# Altium schematic symbol library xEV_Flyback20W.SchLib: 77 symbols (part 1 of 2)
Pins are listed as number, name and electrical type; pins without a type are passive.

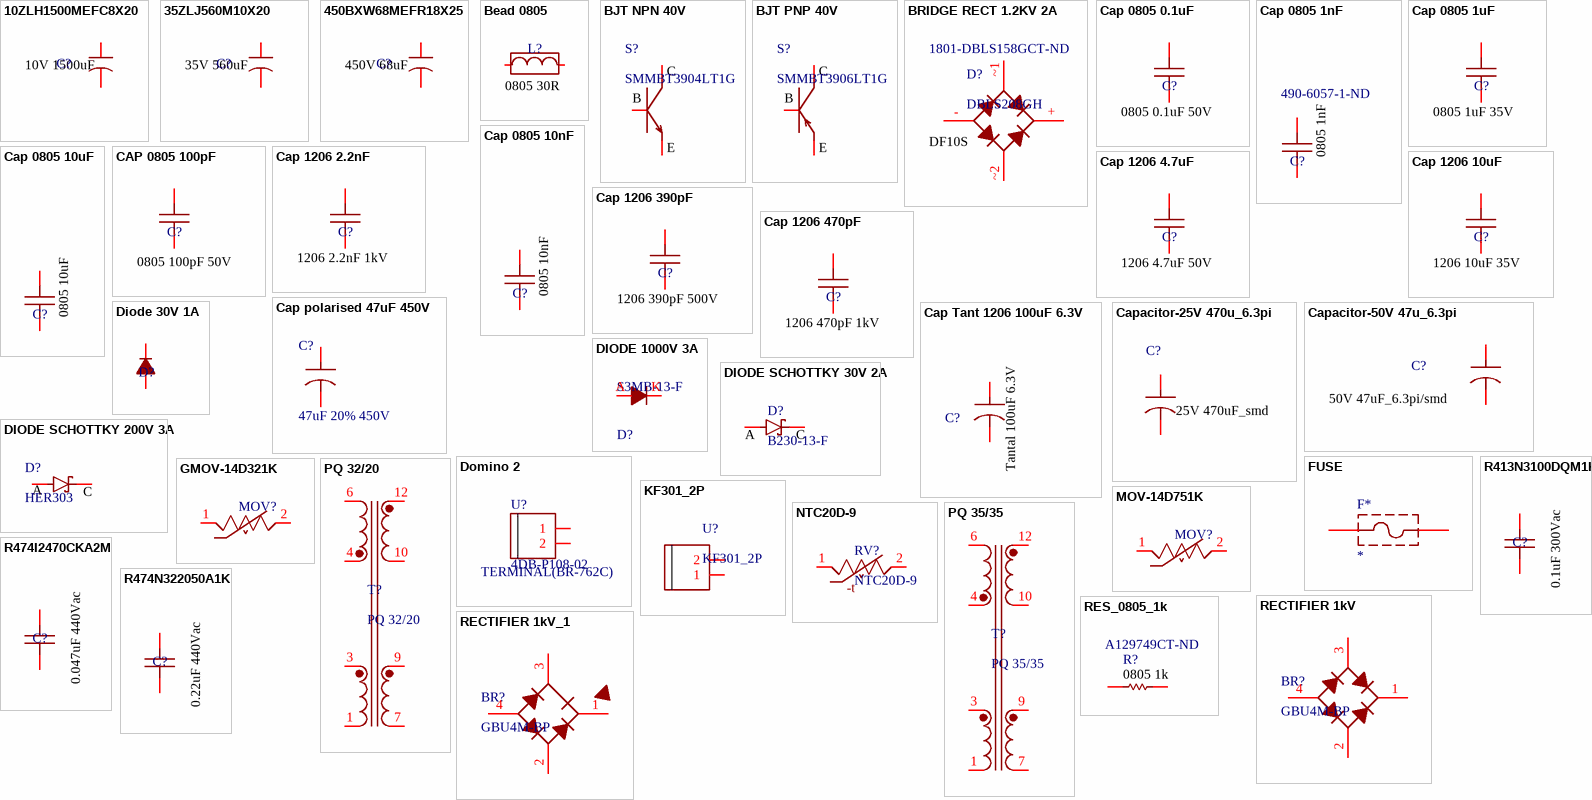
[diagram p0: symbols 10ZLH1500MEFC8X20 to RES_0805_1k]

## 10ZLH1500MEFC8X20
designator C?  value 10V 1500uF  (hidden comment: 10ZLH1500MEFC8X20)
1500 µF 10 V Aluminum Electrolytic Capacitors Radial, Can 8000 Hrs @ 105°C; Manufacturer 1: Rubycon; Description 1: Radial Can ALUMINUM ELECTROLYTIC CAPACITOR ZLH 10V 1500muF ±20% 0.315Dia 8.00mm; Voltage Rating (DC): 10V; Supplier 1: Digikey; Manufacturer Part Number 1: 10ZLH1500MEFC8X20; RoHS 1: Yes; Category 1: Aluminum Electrolytic Capacitors; Stock 1: 6103; Pricing 1: 1=0,6, 10=0,372, 50=0,277, 100=0,2469, 500=0,19462, 1000=0,17808, 2500=0,16039, 5000=0,14959 (USD); ComponentLink1URL: https://datasheet.ciiva.com/6311/e-zlh-6311629.pdf?src-supplier=Digikey; ComponentLink1Description: https://datasheet.ciiva.com/6311/e-zlh-6311629.pdf?src-supplier=Digikey; ComponentLink2URL: https://datasheet.ciiva.com/22732/1910927-22732380.pdf?src-supplier=Element14; ComponentLink2Description: https://datasheet.ciiva.com/22732/1910927-22732380.pdf?src-supplier=Element14; Supplier Part Number 1: 1189-1717-ND
footprint 10ZLH1500MEFC8X20
pins: 1, 2

## 35ZLJ560M10X20
designator C?  value 35V 560uF  (hidden comment: 35ZLJ560M10X20)
560 µF 35 V Aluminum Electrolytic Capacitors Radial, Can 10000 Hrs @ 105°C
footprint 35ZLJ560M10X20
pins: 1, 2

## 450BXW68MEFR18X25
designator C?, comment value 450V 68uF  (hidden comment: Capcitor)
Capcitor-ALU-450V 68uF
footprint 450BXW68MEFR18X25 (Cap 68uF 450V)
pins: 1, 2

## Bead 0805
designator L?, comment value 0805 30R  (hidden comment: BLM21PG300SN1D)
30 Ohms @ 100 MHz 1 Power Line Ferrite Bead 0805 (2012 Metric) 4A 14mOhm; Supplier 1: Arrow Electronics; Supplier Part Number 1: BLM21PG300SN1D
footprint Bead 2012
pins: 1, 2

## BJT NPN 40V
designator S?, comment SMMBT3904LT1G
Bipolar (BJT) Transistor NPN 40 V 200 mA 300MHz 300 mW Surface Mount SOT-23-3 (TO-236); Manufacturer 1: ON Semiconductor; Description 1: Single Bipolar Transistor, NPN, 40 V, 200 mA, 225 mW, SOT-23, 3 Pin, Surface Mount; Category 1: BJTs; Collector Emitter Voltage (VCEO): 40V; Max Power Dissipation: 300mW; hFE Min: 30; Max Collector Current: 200mA; Collector Base Voltage (VCBO): 60V; Emitter Base Voltage (VEBO): 6V; Collector Emitter Saturation Voltage: 300mV; Number of Elements: 1; ComponentLink1URL: https://datasheet.ciiva.com/980/mmbt3906lt1-d-980808.pdf?src-supplier=Digikey; ComponentLink1Description: https://datasheet.ciiva.com/980/mmbt3906lt1-d-980808.pdf?src-supplier=Digikey; ComponentLink2URL: https://datasheet.ciiva.com/16285/mmbt3906lt1-d-16285303.pdf?src-supplier=Mouser; ComponentLink2Description: https://datasheet.ciiva.com/16285/mmbt3906lt1-d-16285303.pdf?src-supplier=Mouser; ComponentLink3URL: https://datasheet.ciiva.com/11204/mmbt3906lt1-d-11204922.pdf?src-supplier=Avnet; ComponentLink3Description: https://datasheet.ciiva.com/11204/mmbt3906lt1-d-11204922.pdf?src-supplier=Avnet; Supplier 1: Digikey; Manufacturer Part Number 1: SMMBT3904LT1G; RoHS 1: Yes; Stock 1: 267913; Pricing 1: 1=0,13, 10=0,095, 100=0,0511, 500=0,04014, 1000=0,02788 (USD); Case/Package: SOT-23-3; Number of Pins: 3; Min Operating Temperature: -55°C; Max Operating Temperature: 150°C; Package Quantity: 3000; Frequency: 300MHz; Packaging: Tape and Reel; Transition Frequency: 300MHz; Collector Emitter Breakdown Voltage: 40V; Max Breakdown Voltage: 40V; Polarity: NPN; Power Dissipation: 300mW; Gain Bandwidth Product: 300MHz; Max Frequency: 300MHz; Series: Automotive, AEC-Q101; Collector-emitter Voltage-Max: 300mV; Length: 3.04mm; Width: 1.4mm; Height: 1.01mm; Radiation Hardening: No; Reach SVHC Compliant: No; Lead Free: Lead Free; RoHS Compliant: Yes; ComponentLink4URL: https://datasheet.ciiva.com/16289/mmbt3904lt1-d-254626-16289853.pdf?src-supplier=Mouser; ComponentLink4Description: https://datasheet.ciiva.com/16289/mmbt3904lt1-d-254626-16289853.pdf?src-supplier=Mouser; ComponentLink5URL: https://datasheet.ciiva.com/29570/mmbt3904lt1-d-29570629.pdf?src-supplier=Digikey; ComponentLink5Description: https://datasheet.ciiva.com/29570/mmbt3904lt1-d-29570629.pdf?src-supplier=Digikey; ComponentLink6URL: https://datasheet.ciiva.com/29570/mmbt3904lt1-d-29570630.pdf?src-supplier=Digikey; ComponentLink6Description: https://datasheet.ciiva.com/29570/mmbt3904lt1-d-29570630.pdf?src-supplier=Digikey; ComponentLink7URL: https://datasheet.ciiva.com/11204/mmbt3904lt1-d-11204919.pdf?src-supplier=Avnet; ComponentLink7Description: https://datasheet.ciiva.com/11204/mmbt3904lt1-d-11204919.pdf?src-supplier=Avnet; Supplier Part Number 1: SMMBT3904LT1GOSCT-ND
footprint SOT 23 3
pins: B, C, E

## BJT PNP 40V
designator S?, comment SMMBT3906LT1G
Trans GP BJT PNP 40V 0.2A 300mW Automotive 3-Pin SOT-23 T/R; Manufacturer 1: ON Semiconductor; Category 1: BJTs; Supplier 1: Digikey; Manufacturer Part Number 1: SMMBT3906LT1G; RoHS 1: Yes; Description 1: Trans GP BJT PNP 40V 0.2A 300mW Automotive 3-Pin SOT-23 T/R; Stock 1: 92580; Pricing 1: 1=0,17, 10=0,124, 100=0,0667, 500=0,05236, 1000=0,03636, 3000=0,03012, 6000=0,02848, 9000=0,02424, 30000=0,02242, 75000=0,01939, 150000=0,01612 (USD); Lead Free: 5697LeadFree; ComponentLink1URL: https://datasheet.ciiva.com/980/mmbt3906lt1-d-980808.pdf?src-supplier=Digikey; ComponentLink1Description: https://datasheet.ciiva.com/980/mmbt3906lt1-d-980808.pdf?src-supplier=Digikey; ComponentLink2URL: https://datasheet.ciiva.com/16285/mmbt3906lt1-d-16285303.pdf?src-supplier=Mouser; ComponentLink2Description: https://datasheet.ciiva.com/16285/mmbt3906lt1-d-16285303.pdf?src-supplier=Mouser; ComponentLink3URL: https://datasheet.ciiva.com/11204/mmbt3906lt1-d-11204922.pdf?src-supplier=Avnet; ComponentLink3Description: https://datasheet.ciiva.com/11204/mmbt3906lt1-d-11204922.pdf?src-supplier=Avnet; Supplier Part Number 1: SMMBT3906LT1GOSCT-ND
footprint SOT 23 3
pins: B, C, E

## BRIDGE RECT 1.2KV 2A
designator D?, comment DBLS208GH  Supplier Part Number 1: 1801-DBLS158GCT-ND
Bridge Rectifier Single Phase Standard 1.2 kV Surface Mount DBLS; Manufacturer: FairchildSemiconductor; Peak Average Forward Current: 1.5@Ta=40CA; Peak Reverse Repetitive Voltage: 1000V; Peak Reverse Current: 5uA; Peak Forward Voltage: 1.1@1AV; Datasheet Version: Rev. 1.5, 05/2015; Package: 4SDIPSMD; Operating Temperature: -55to150°C; Configuration: Single; Package Reference: SDIP 4L; Datasheet URL: http://www.farnell.com/datasheets/1941063.pdf; Packaging: Tape&Reel; Manufacturer URL: https://www.fairchildsemi.com/; Bridge Type: SinglePhase; Mounting Technology: SurfaceMount; Category: BridgeRectifier; Package Description: 4-Pin Surface Mount Device, Body 8.28 x 6.35 mm, Pitch 5.1 mm; Mounting: SurfaceMount; Supplier 1: Digikey
footprint DB SMD
pins: +, -, ~1, ~2
text: DF10S

## Cap 0805 0.1uF
designator C?, comment value 0805 0.1uF 50V  (hidden comment: CL21B104KBCNNNC)
0.1 µF ±10% 50V Ceramic Capacitor X7R 0805 (2012 Metric); Manufacturer 1: Samsung; Description 1: Multilayer Ceramic Capacitor, 0.1 uF, 50 V, ± 10%, X7R, 0805 [2012 Metric]; Category 1: Ceramic Capacitors; Supplier 1: Digi-Key; Supplier Part Number 1: 1276-1003-1-ND; Manufacturer Part Number 1: CL21B104KBCNNNC; RoHS 1: Yes; Stock 1: 559254; Pricing 1: 1=0,1, 10=0,044, 50=0,024, 100=0,0196, 500=0,01404, 1000=0,01103 (USD); ComponentLink1URL: https://datasheet.ciiva.com/25710/cl21b104kbcnnnc-25710182.pdf?src-supplier=Digi-Key; ComponentLink1Description: https://datasheet.ciiva.com/25710/cl21b104kbcnnnc-25710182.pdf?src-supplier=Digi-Key; ComponentLink2URL: https://datasheet.ciiva.com/29199/454152-da-01-en-vs-kondensator-0805-29199814.pdf?src-supplier=Conrad; ComponentLink2Description: https://datasheet.ciiva.com/29199/454152-da-01-en-vs-kondensator-0805-29199814.pdf?src-supplier=Conrad
footprint CAP 0805 (0805 (2012))
pins: 1, 2

## Cap 0805 1nF
designator C?, comment value 0805 1nF  Supplier Part Number 1: 490-6057-1-ND  (hidden comment: GCM216R71H102KA37D)
1000 pF 50 VDC 10% 0805 X7R; Manufacturer 1: Murata; Manufacturer Part Number 1: GRM21BR61H106KE43L; Description 1: Capacitor Ceramic Multilayer; Category 1: Ceramic Capacitors; RoHS 1: Yes; Stock 1: 19692; Pricing 1: 1=0,3, 10=0,209, 50=0,139, 100=0,1182, 500=0,08342, 1000=0,073 (USD); ComponentLink1URL: https://datasheet.octopart.com/GRM21BR61H106KE43L-Murata-datasheet-155345082.pdf?src-supplier=Element14; ComponentLink1Description: https://datasheet.octopart.com/GRM21BR61H106KE43L-Murata-datasheet-155345082.pdf?src-supplier=Element14; ComponentLink2URL: https://search.murata.co.jp/Ceramy/image/img/A01X/G101/ENG/GRM21BR61H106KE43-01A.pdf?src-supplier=Digi-Key; ComponentLink2Description: https://search.murata.co.jp/Ceramy/image/img/A01X/G101/ENG/GRM21BR61H106KE43-01A.pdf?src-supplier=Digi-Key; ComponentLink3URL: https://datasheet.octopart.com/GRM21BR61H106KE43L-Murata-datasheet-165579666.pdf?src-supplier=TME; ComponentLink3Description: https://datasheet.octopart.com/GRM21BR61H106KE43L-Murata-datasheet-165579666.pdf?src-supplier=TME; Supplier 1: Digikey
footprint CAP 0805 (0805 (2012))
pins: 1, 2

## Cap 0805 1uF
designator C?, comment value 0805 1uF 35V  (hidden comment: GRM219R7YA105KA12D)
1 µF ±10% 35V Ceramic Capacitor X7R 0805 (2012 Metric); Supplier 1: Digi-Key; Supplier Part Number 1: 490-10494-1-ND
footprint CAP 0805 (0805 (2012))
pins: 1, 2

## Cap 0805 10nF
designator C?, comment value 0805 10nF  (hidden comment: GRM2195C1H103JA01D)
10000 pF ±5% 50V Ceramic Capacitor C0G, NP0 0805 (2012 Metric); Manufacturer 1: Murata; Manufacturer Part Number 1: GRM21BR61H106KE43L; Description 1: Capacitor Ceramic Multilayer; Category 1: Ceramic Capacitors; RoHS 1: Yes; Stock 1: 19692; Pricing 1: 1=0,3, 10=0,209, 50=0,139, 100=0,1182, 500=0,08342, 1000=0,073 (USD); ComponentLink1URL: https://datasheet.octopart.com/GRM21BR61H106KE43L-Murata-datasheet-155345082.pdf?src-supplier=Element14; ComponentLink1Description: https://datasheet.octopart.com/GRM21BR61H106KE43L-Murata-datasheet-155345082.pdf?src-supplier=Element14; ComponentLink2URL: https://search.murata.co.jp/Ceramy/image/img/A01X/G101/ENG/GRM21BR61H106KE43-01A.pdf?src-supplier=Digi-Key; ComponentLink2Description: https://search.murata.co.jp/Ceramy/image/img/A01X/G101/ENG/GRM21BR61H106KE43-01A.pdf?src-supplier=Digi-Key; ComponentLink3URL: https://datasheet.octopart.com/GRM21BR61H106KE43L-Murata-datasheet-165579666.pdf?src-supplier=TME; ComponentLink3Description: https://datasheet.octopart.com/GRM21BR61H106KE43L-Murata-datasheet-165579666.pdf?src-supplier=TME; Supplier 1: Digikey; Supplier Part Number 1: 490-1642-1-ND
footprint CAP 0805 (0805 (2012))
pins: 1, 2

## Cap 0805 10uF
designator C?, comment value 0805 10uF  (hidden comment: GRM21BR61H106KE43L)
10 µF ±10% 50V Ceramic Capacitor X5R 0805 (2012 Metric); Manufacturer 1: Murata; Description 1: Capacitor Ceramic Multilayer; Category 1: Ceramic Capacitors; Supplier 1: Digi-Key; Supplier Part Number 1: 490-18663-1-ND; Manufacturer Part Number 1: GRM21BR61H106KE43L; RoHS 1: Yes; Stock 1: 19692; Pricing 1: 1=0,3, 10=0,209, 50=0,139, 100=0,1182, 500=0,08342, 1000=0,073 (USD); ComponentLink1URL: https://datasheet.octopart.com/GRM21BR61H106KE43L-Murata-datasheet-155345082.pdf?src-supplier=Element14; ComponentLink1Description: https://datasheet.octopart.com/GRM21BR61H106KE43L-Murata-datasheet-155345082.pdf?src-supplier=Element14; ComponentLink2URL: https://search.murata.co.jp/Ceramy/image/img/A01X/G101/ENG/GRM21BR61H106KE43-01A.pdf?src-supplier=Digi-Key; ComponentLink2Description: https://search.murata.co.jp/Ceramy/image/img/A01X/G101/ENG/GRM21BR61H106KE43-01A.pdf?src-supplier=Digi-Key; ComponentLink3URL: https://datasheet.octopart.com/GRM21BR61H106KE43L-Murata-datasheet-165579666.pdf?src-supplier=TME; ComponentLink3Description: https://datasheet.octopart.com/GRM21BR61H106KE43L-Murata-datasheet-165579666.pdf?src-supplier=TME
footprint CAP 0805 (0805 (2012))
pins: 1, 2

## CAP 0805 100pF
designator C?, comment Parameter 1: 0805 100pF 50V  (hidden comment: C0805C101J5RACTU)
CAP, CERM, 100 pF, 50 V, +/- 5%, X7R, 0805; Manufacturer 1: KEMET; Description 1: Cap Ceramic 100pF 50V X7R 5% SMD 0805 125C Paper T/R; Category 1: Ceramic Capacitors; Supplier 1: Mouser; Supplier Part Number 1: 80-C0805C101J5R; Manufacturer Part Number 1: C0805C101J5RACTU; RoHS 1: Yes; Stock 1: 27580; Pricing 1: 1=0,14, 10=0,059, 50=0,059, 100=0,034, 1000=0,027, 10000=0,022 (USD); ComponentLink1URL: http://components.arrow.com/part/dataview/42933017S9108484N7429?src-supplier=Arrow+Electronics; ComponentLink1Description: http://components.arrow.com/part/dataview/42933017S9108484N7429?src-supplier=Arrow+Electronics; ComponentLink2URL: https://datasheet.octopart.com/C0805C101J5RACTU-KEMET-datasheet-157246124.pdf?src-supplier=TME; ComponentLink2Description: https://datasheet.octopart.com/C0805C101J5RACTU-KEMET-datasheet-157246124.pdf?src-supplier=TME
footprint CAP 0805 (0805 (2012))
pins: 1, 2

## Cap 1206 2.2nF
designator C?, comment value 1206 2.2nF 1kV  (hidden comment: CC1206KKX7RCBB222)
2200 pF ±10% 1000V (1kV) Ceramic Capacitor X7R 1206 (3216 Metric); Manufacturer 1: Yageo; Description 1: Multilayer Ceramic Capacitor, 2200 pF, 1000 V, ± 10%, X7R, 1206 [3216 Metric]; Category 1: Ceramic Capacitors; Material: 4241ConductorMaterial; Supplier 1: Digikey; Manufacturer Part Number 1: CC1206KKX7RCBB222; RoHS 1: Yes; Stock 1: 424375; Pricing 1: 1=0,18, 10=0,119, 50=0,0754, 100=0,0603, 500=0,04358, 1000=0,03856 (USD); Voltage Rating (AC): 1kV; ComponentLink1URL: https://datasheet.ciiva.com/11787/0900766b80d8503a-11787843.pdf?src-supplier=Rs; ComponentLink1Description: https://datasheet.ciiva.com/11787/0900766b80d8503a-11787843.pdf?src-supplier=Rs; ComponentLink2URL: https://datasheet.ciiva.com/13264/upy-gp-np0-16v-to-50v-8-3714-13264204.pdf?src-supplier=Mouser; ComponentLink2Description: https://datasheet.ciiva.com/13264/upy-gp-np0-16v-to-50v-8-3714-13264204.pdf?src-supplier=Mouser; ComponentLink3URL: https://datasheet.ciiva.com/190/mlccorderingcode-190678.pdf?src-supplier=Digikey; ComponentLink3Description: https://datasheet.ciiva.com/190/mlccorderingcode-190678.pdf?src-supplier=Digikey; ComponentLink4URL: https://datasheet.ciiva.com/190/mlccorderingcode-190679.pdf?src-supplier=Digikey; ComponentLink4Description: https://datasheet.ciiva.com/190/mlccorderingcode-190679.pdf?src-supplier=Digikey; ComponentLink5URL: https://datasheet.ciiva.com/190/mlccorderingcode-190680.pdf?src-supplier=Digikey; ComponentLink5Description: https://datasheet.ciiva.com/190/mlccorderingcode-190680.pdf?src-supplier=Digikey; Supplier Part Number 1: 311-1511-1-ND
footprint Cap 1206
pins: 1, 2

## Cap 1206 4.7uF
designator C?, comment value 1206 4.7uF 50V  (hidden comment: C3216X7R1H475M160AC)
4.7 µF ±20% 50V Ceramic Capacitor X7R 1206 (3216 Metric); Manufacturer 1: TDK; Manufacturer Part Number 1: CGA5L1X7R1V106M160AC; Description 1: Cap Ceramic 10uF 35V X7R 20% SMD 1206 125°C Blister Plastic T/R; Category 1: Ceramic Capacitors; Capacitance: 10uF; Voltage Rating: 35V; RoHS 1: Yes; Stock 1: 4126; Pricing 1: 1=0,72, 10=0,53, 50=0,4242, 100=0,3636, 500=0,28784, 1000=0,2424 (USD); Mount: Surface Mount; Case/Package: 1206; Case Code (Imperial): 1206; Case Code (Metric): 3216; Weight: 0.000571oz; Min Operating Temperature: -55°C; Max Operating Temperature: 125°C; Packaging: Tape and Reel; Tolerance: 20%; Dielectric: X7R; Termination: SMD/SMT; Voltage Rating (DC): 35V; Package Quantity: 2000; Series: CGA; Length: 0.126inch; Width: 1.6mm; Height: 1.6mm; Thickness: 0.071inch; Ratings: AEC-Q200; RoHS Compliant: Yes; ComponentLink1URL: https://product.tdk.com/info/en/catalog/datasheets/mlcc_automotive_general_en.pdf?src-supplier=Digi-Key; ComponentLink1Description: https://product.tdk.com/info/en/catalog/datasheets/mlcc_automotive_general_en.pdf?src-supplier=Digi-Key; ComponentLink2URL: http://product.tdk.com/capacitor/mlcc/detailed_information.php?lang=en&ref=jp&part_no=CGA5L1X7R1V106M160AC&src-supplier=Mouser; ComponentLink2Description: http://product.tdk.com/capacitor/mlcc/detailed_information.php?lang=en&ref=jp&part_no=CGA5L1X7R1V106M160AC&src-supplier=Mouser; ComponentLink3URL: http://product.tdk.com/capacitor/mlcc/class/print_detail_pdf.php?lang=en&part_no=CGA5L1X7R1V106M160AC&src-supplier=Avnet; ComponentLink3Description: http://product.tdk.com/capacitor/mlcc/class/print_detail_pdf.php?lang=en&part_no=CGA5L1X7R1V106M160AC&src-supplier=Avnet; ComponentLink4URL: https://product.tdk.com/info/en/catalog/spec/mlccspec_automotive_general_midvoltage_en.pdf?src-supplier=Digi-Key; ComponentLink4Description: https://product.tdk.com/info/en/catalog/spec/mlccspec_automotive_general_midvoltage_en.pdf?src-supplier=Digi-Key; Supplier 1: Digikey; Supplier Part Number 1: 445-8033-1-ND
footprint Cap 1206
pins: 1, 2

## Cap 1206 10uF
designator C?, comment value 1206 10uF 35V  (hidden comment: CGA5L1X7R1V106M160AC)
10 µF ±20% 35V Ceramic Capacitor X7R 1206 (3216 Metric); Manufacturer 1: TDK; Description 1: Cap Ceramic 10uF 35V X7R 20% SMD 1206 125°C Blister Plastic T/R; Category 1: Ceramic Capacitors; Capacitance: 10uF; Supplier 1: Digi-Key; Manufacturer Part Number 1: CGA5L1X7R1V106M160AC; RoHS 1: Yes; Stock 1: 4126; Pricing 1: 1=0,72, 10=0,53, 50=0,4242, 100=0,3636, 500=0,28784, 1000=0,2424 (USD); Mount: Surface Mount; Case/Package: 1206; Case Code (Imperial): 1206; Case Code (Metric): 3216; Weight: 0.000571oz; Min Operating Temperature: -55°C; Max Operating Temperature: 125°C; Packaging: Tape and Reel; Voltage Rating: 35V; Tolerance: 20%; Dielectric: X7R; Termination: SMD/SMT; Voltage Rating (DC): 35V; Package Quantity: 2000; Series: CGA; Length: 0.126inch; Width: 1.6mm; Height: 1.6mm; Thickness: 0.071inch; Ratings: AEC-Q200; RoHS Compliant: Yes; ComponentLink1URL: https://product.tdk.com/info/en/catalog/datasheets/mlcc_automotive_general_en.pdf?src-supplier=Digi-Key; ComponentLink1Description: https://product.tdk.com/info/en/catalog/datasheets/mlcc_automotive_general_en.pdf?src-supplier=Digi-Key; ComponentLink2URL: http://product.tdk.com/capacitor/mlcc/detailed_information.php?lang=en&ref=jp&part_no=CGA5L1X7R1V106M160AC&src-supplier=Mouser; ComponentLink2Description: http://product.tdk.com/capacitor/mlcc/detailed_information.php?lang=en&ref=jp&part_no=CGA5L1X7R1V106M160AC&src-supplier=Mouser; ComponentLink3URL: http://product.tdk.com/capacitor/mlcc/class/print_detail_pdf.php?lang=en&part_no=CGA5L1X7R1V106M160AC&src-supplier=Avnet; ComponentLink3Description: http://product.tdk.com/capacitor/mlcc/class/print_detail_pdf.php?lang=en&part_no=CGA5L1X7R1V106M160AC&src-supplier=Avnet; ComponentLink4URL: https://product.tdk.com/info/en/catalog/spec/mlccspec_automotive_general_midvoltage_en.pdf?src-supplier=Digi-Key; ComponentLink4Description: https://product.tdk.com/info/en/catalog/spec/mlccspec_automotive_general_midvoltage_en.pdf?src-supplier=Digi-Key; Supplier Part Number 1: 445-175201-1-ND
footprint Cap 1206
pins: 1, 2

## Cap 1206 390pF
designator C?, comment value 1206 390pF 500V  (hidden comment: VJ1206A391JXEAT)
CAP CER 390PF 500V C0G/NP0 1206; Manufacturer 1: TDK; Manufacturer Part Number 1: CGA5L1X7R1V106M160AC; Description 1: Cap Ceramic 10uF 35V X7R 20% SMD 1206 125°C Blister Plastic T/R; Category 1: Ceramic Capacitors; Voltage Rating: 35V; Tolerance: 20%; Dielectric: X7R; RoHS 1: Yes; Stock 1: 4126; Pricing 1: 1=0,72, 10=0,53, 50=0,4242, 100=0,3636, 500=0,28784, 1000=0,2424 (USD); Mount: Surface Mount; Case/Package: 1206; Case Code (Imperial): 1206; Case Code (Metric): 3216; Weight: 0.000571oz; Min Operating Temperature: -55°C; Max Operating Temperature: 125°C; Capacitance: 390pF; Packaging: Tape and Reel; Termination: SMD/SMT; Voltage Rating (DC): 35V; Package Quantity: 2000; Series: CGA; Length: 0.126inch; Width: 1.6mm; Height: 1.6mm; Thickness: 0.071inch; Ratings: AEC-Q200; RoHS Compliant: Yes; ComponentLink1URL: https://product.tdk.com/info/en/catalog/datasheets/mlcc_automotive_general_en.pdf?src-supplier=Digi-Key; ComponentLink1Description: https://product.tdk.com/info/en/catalog/datasheets/mlcc_automotive_general_en.pdf?src-supplier=Digi-Key; ComponentLink2URL: http://product.tdk.com/capacitor/mlcc/detailed_information.php?lang=en&ref=jp&part_no=CGA5L1X7R1V106M160AC&src-supplier=Mouser; ComponentLink2Description: http://product.tdk.com/capacitor/mlcc/detailed_information.php?lang=en&ref=jp&part_no=CGA5L1X7R1V106M160AC&src-supplier=Mouser; ComponentLink3URL: http://product.tdk.com/capacitor/mlcc/class/print_detail_pdf.php?lang=en&part_no=CGA5L1X7R1V106M160AC&src-supplier=Avnet; ComponentLink3Description: http://product.tdk.com/capacitor/mlcc/class/print_detail_pdf.php?lang=en&part_no=CGA5L1X7R1V106M160AC&src-supplier=Avnet; ComponentLink4URL: https://product.tdk.com/info/en/catalog/spec/mlccspec_automotive_general_midvoltage_en.pdf?src-supplier=Digi-Key; ComponentLink4Description: https://product.tdk.com/info/en/catalog/spec/mlccspec_automotive_general_midvoltage_en.pdf?src-supplier=Digi-Key; Supplier 1: Digikey; Supplier Part Number 1: 720-VJ1206A391JXEATCT-ND
footprint Cap 1206
pins: 1, 2

## Cap 1206 470pF
designator C?, comment value 1206 470pF 1kV  (hidden comment: GCM31A5C3A471FX01D)
MLCC - SMD/SMT 470 pF 1 kVDC 1% 1206; Manufacturer 1: TDK; Manufacturer Part Number 1: CGA5L1X7R1V106M160AC; Description 1: Cap Ceramic 10uF 35V X7R 20% SMD 1206 125°C Blister Plastic T/R; Category 1: Ceramic Capacitors; Capacitance: 10uF; Voltage Rating: 35V; Tolerance: 20%; Dielectric: X7R; RoHS 1: Yes; Stock 1: 4126; Pricing 1: 1=0,72, 10=0,53, 50=0,4242, 100=0,3636, 500=0,28784, 1000=0,2424 (USD); Mount: Surface Mount; Case/Package: 1206; Case Code (Imperial): 1206; Case Code (Metric): 3216; Weight: 0.000571oz; Min Operating Temperature: -55°C; Max Operating Temperature: 125°C; Packaging: Tape and Reel; Termination: SMD/SMT; Voltage Rating (DC): 35V; Package Quantity: 2000; Series: CGA; Length: 0.126inch; Width: 1.6mm; Height: 1.6mm; Thickness: 0.071inch; Ratings: AEC-Q200; RoHS Compliant: Yes; ComponentLink1URL: https://product.tdk.com/info/en/catalog/datasheets/mlcc_automotive_general_en.pdf?src-supplier=Digi-Key; ComponentLink1Description: https://product.tdk.com/info/en/catalog/datasheets/mlcc_automotive_general_en.pdf?src-supplier=Digi-Key; ComponentLink2URL: http://product.tdk.com/capacitor/mlcc/detailed_information.php?lang=en&ref=jp&part_no=CGA5L1X7R1V106M160AC&src-supplier=Mouser; ComponentLink2Description: http://product.tdk.com/capacitor/mlcc/detailed_information.php?lang=en&ref=jp&part_no=CGA5L1X7R1V106M160AC&src-supplier=Mouser; ComponentLink3URL: http://product.tdk.com/capacitor/mlcc/class/print_detail_pdf.php?lang=en&part_no=CGA5L1X7R1V106M160AC&src-supplier=Avnet; ComponentLink3Description: http://product.tdk.com/capacitor/mlcc/class/print_detail_pdf.php?lang=en&part_no=CGA5L1X7R1V106M160AC&src-supplier=Avnet; ComponentLink4URL: https://product.tdk.com/info/en/catalog/spec/mlccspec_automotive_general_midvoltage_en.pdf?src-supplier=Digi-Key; ComponentLink4Description: https://product.tdk.com/info/en/catalog/spec/mlccspec_automotive_general_midvoltage_en.pdf?src-supplier=Digi-Key; Supplier 1: Digikey; Supplier Part Number 1: 490-GCM31A5C3A471FX01DCT-ND
footprint Cap 1206
pins: 1, 2

## Cap polarised 47uF 450V
designator C?, comment value 47uF 20% 450V  (hidden comment: 450BXW47MEFR18X20)
Capacitor Polarised 47uF 20% 450V; Manufacturer_Name: Rubycon; Datasheet Link: http://www.rubycon.co.jp/en/catalog/e_pdfs/aluminum/e_BXW.pdf; Height: 22mm; Manufacturer_Part_Number: 450BXW47MEFR18X20; Mouser Part Number: 232-450BXW47MEFR18X2; Mouser Price/Stock: https://www.mouser.co.uk/ProductDetail/Rubycon/450BXW47MEFR18X20?qs=T3oQrply3y%252BX%252BqSgDVXA4w%3D%3D; Supplier 1: Digikey; Supplier Part Number 1: 1189-3197-ND
footprint CAP 47uF 450V
pins: 1 +, 2 -

## Cap Tant 1206 100uF 6.3V
designator C?, comment value Tantal 100uF 6.3V  (hidden comment: T520A107M006ATE045)
100 µF Molded Tantalum Polymer Capacitor 6.3 V 1206 (3216 Metric) 45mOhm @ 100kHz; Manufacturer 1: KEMET; Description 1: Tantalum Polymer Capacitor, 100 uF, 6.3 V, ± 20%, A, 45 mohm, 1206 [3216-18 Metric]; Category 1: Tantalum Capacitors; Dissipation Factor: 8%; Leakage Current: 63uA; Ripple Current: 1.6A; Voltage Rating (DC): 6.3V; ComponentLink1URL: http://www.farnell.com/datasheets/2620377.pdf?src-supplier=Farnell; ComponentLink1Description: http://www.farnell.com/datasheets/2620377.pdf?src-supplier=Farnell; ComponentLink2URL: http://www.farnell.com/datasheets/2620377.pdf?src-supplier=Element14; ComponentLink2Description: http://www.farnell.com/datasheets/2620377.pdf?src-supplier=Element14; ComponentLink3URL: http://www.farnell.com/datasheets/2620377.pdf?src-supplier=Newark; ComponentLink3Description: http://www.farnell.com/datasheets/2620377.pdf?src-supplier=Newark; ComponentLink4URL: https://datasheet.octopart.com/T520A107M006ATE045-KEMET-datasheet-86450489.pdf?src-supplier=Element14; ComponentLink4Description: https://datasheet.octopart.com/T520A107M006ATE045-KEMET-datasheet-86450489.pdf?src-supplier=Element14; ComponentLink5URL: https://api.kemet.com/component-edge/download/specsheet/T520A107M006ATE045.pdf?src-supplier=Digi-Key; ComponentLink5Description: https://api.kemet.com/component-edge/download/specsheet/T520A107M006ATE045.pdf?src-supplier=Digi-Key; ComponentLink6URL: https://datasheet.octopart.com/T520A107M006ATE045-KEMET-datasheet-149529685.pdf?src-supplier=Farnell; ComponentLink6Description: https://datasheet.octopart.com/T520A107M006ATE045-KEMET-datasheet-149529685.pdf?src-supplier=Farnell; ComponentLink7URL: https://datasheet.octopart.com/T520A107M006ATE045-Kemet-datasheet-67697637.pdf?src-supplier=TME; ComponentLink7Description: https://datasheet.octopart.com/T520A107M006ATE045-Kemet-datasheet-67697637.pdf?src-supplier=TME; Supplier 1: Digi-Key; Manufacturer Part Number 1: T520A107M006ATE045; RoHS 1: Yes; Stock 1: 24242; Pricing 1: 1=0,81, 10=0,564, 50=0,4746, 100=0,3864, 500=0,322, 1000=0,27116 (USD); Height: 1.8mm; Supplier Part Number 1: 399-18160-6-ND
footprint Cap 1206 Tant
pins: 1, 2

## Capacitor-25V 470u_6.3pi
designator C?, comment 875575561007  (value not drawn)
CAP ALUM HYB 470UF 20% 25V SMD; NexarPartId: 54202666; Capacitance: 470µF; Ripple Current: 5.1A; Voltage Rating: 16V; Life (Hours): 2000hours; Pitch: 10.3mm; ESR (Equivalent Series Resistance): 10mΩ; Leakage Current: 1.504mA; Polarity: Polar; Case/Package: Radial; Height - Seated (Max): 12.3952mm; Tolerance: 20%; Width: 10.3mm; Diameter: 10mm; Max Operating Temperature: 105°C; REACH SVHC: Unknown; Mount: Surface Mount; Min Operating Temperature: -55°C; Length: 12.4mm; Packaging: Tape & Reel (TR); RoHS: Compliant; Voltage Rating (DC): 16V; Supplier 1: Digikey; Supplier Part Number 1: 732-875575561007CT-ND
footprint C-25-470uf (Aluminum Polymer Capacitor, Diameter 10mm)
pins: 1, 2
text: 25V 470uF_smd

## Capacitor-50V 47u_6.3pi
designator C?, comment value 50V 47uF_6.3pi/smd  (hidden comment: EEE-FK1H470XL)
CAP ALUM 47UF 20% 50V SMD; Manufacturer: Panasonic; Supplier Part Number: 10-EEE-FK1H470XLCTND; Package/Case: 6.3mm (dia); Supplier 1: Digi-Key; Supplier Part Number 1: 10-EEE-FK1H470XLCT-ND
footprint C-50-47uf_alu
pins: 1, 2

## Diode 30V 1A
designator D?, comment PMEG3010EB,115  (value not drawn)
Diode 30 V 1A Surface Mount SOD-523; Manufacturer 1: Nexperia; Description 1: Rectifier Diode, Schottky, 1 Phase, 1 Element, 1A, Silicon; Category 1: Rectifier Diodes; Max Reverse Leakage Current: 500uA; Max Surge Current: 3A; Max Repetitive Reverse Voltage (Vrrm): 30V; Peak Non-Repetitive Surge Current: 5A; Element Configuration: 5460ElementConfiguration; Forward Voltage: 680mV; ComponentLink1URL: https://datasheet.octopart.com/BZX585-C9V1%2C135-Nexperia-datasheet-81456219.pdf?src-supplier=Future+Electronics; ComponentLink1Description: https://datasheet.octopart.com/BZX585-C9V1%2C135-Nexperia-datasheet-81456219.pdf?src-supplier=Future+Electronics; Supplier 1: Digikey; Manufacturer Part Number 1: PMEG3010EB,115; RoHS 1: Yes; Stock 1: 7761; Pricing 1: 1=0,46, 10=0,326, 100=0,1644, 500=0,14572, 1000=0,11341, 3000=0,1015, 6000=0,09923, 9000=0,08789, 30000=0,08676, 75000=0,07371 (USD); Mount: 8Mount; Number of Pins: 2NUMBER; Min Operating Temperature: -65°C; Max Operating Temperature: 150°C; Forward Current: 1A; Max Reverse Voltage (DC): 30V; Max Reverse Current: 500uA; Average Rectified Current: 1A; Max Forward Surge Current (Ifsm): 5A; Radiation Hardening: 5898YesNo; RoHS Compliant: Yes; Lead Free: 5697LeadFree; Reach SVHC Compliant: 4186SVHC; ComponentLink2URL: https://assets.nexperia.com/documents/packing/SOD523_115.pdf?src-supplier=Digikey; ComponentLink2Description: https://assets.nexperia.com/documents/packing/SOD523_115.pdf?src-supplier=Digikey; ComponentLink3URL: https://datasheet.octopart.com/PMEG3010EB%2C115-Nexperia-datasheet-12552804.pdf?src-supplier=Farnell; ComponentLink3Description: https://datasheet.octopart.com/PMEG3010EB%2C115-Nexperia-datasheet-12552804.pdf?src-supplier=Farnell; Supplier Part Number 1: 1727-5834-1-ND
footprint SOD 523
pins: A, K

## DIODE 1000V 3A
designator D?, comment S3MB-13-F
DIODE GEN PURP 1KV 3A SMB; Manufacturer: Diodes Inc.; Peak Reverse Current: 10uA; Max Junction Temp: +150°C; Reverse Voltage: 1000V; Standoff Height: 0.05mm; Max Surge Forward Current: 100A; Capacitance: 40pF; Value: 40pF; Automotive: No; Device Class L1: Discrete Semiconductors; ComponentLink2Description: Datasheet; Temperature Range Low: -65°C; Lead Free: Yes; Height: 2.5mm; Device Class L3: Rectifier Diodes; Footprint Url: https://www.diodes.com/assets/Package-Files/SMB.pdf; Device Class L2: Diodes; Octopart: https://octopart.com/s3mb-13-f-diodes+inc.-333387; Temperature: -65°C to +150°C; ComponentLink2URL: https://www.diodes.com/assets/Datasheets/ds16005.pdf; RoHS: TRUE; Max Repetitive Reverse Voltage: 1000V; Package: SMB; Digikey Description: DIODE GEN PURP 1KV 3A SMB; Category: Diode; Manufacturer Part Number: S3MB-13-F; Forward Current: 3A; Mouser Description: Rectifiers 1000V 3A; Temperature Range High: +150°C; Supplier 1: Digikey; Supplier Part Number 1: S3MB-FDICT-ND
footprint DIODE 1kV 3A
pins: A 1, K 2

## DIODE SCHOTTKY 30V 2A
designator D?, comment B230-13-F
DIODE SCHOTTKY 30V 2A SMB; Supplier 1: Digikey; Supplier Part Number 1: B230-FDICT-ND
footprint SCHOTTKY DIODE 30V 2A
pins: 1 A, 2 C

## DIODE SCHOTTKY 200V 3A
designator D?, comment HER303
Schottky Diodes 3A 200V 50ns  Through Hole DO-201AD; Manufacturer_Name: onsemi; Manufacturer_Part_Number: FFSD08120A; Datasheet Link: http://www.onsemi.com/pub/Collateral/FFSD08120A-D.PDF; Mouser Part Number: 863-FFSD08120A; Mouser Price/Stock: https://www.mouser.co.uk/ProductDetail/onsemi/FFSD08120A?qs=f9yNj16SXrKqhVkeFnS%2F%252BA%3D%3D; Arrow Part Number: FFSD08120A; Arrow Price/Stock: https://www.arrow.com/en/products/ffsd08120a/on-semiconductor
footprint DIODE Schottky 200V 3A
pins: 1 A, 2 C

## Domino 2
designator U?, comment TERMINAL(BR-762C)  value 4DB-P108-02
CONN BARRIER STRIP 2CIRC 0.325"; Manufacturer: TE Connectivity AMP; Supplier Part Number: A98472-ND; Package/Case: Barrier Block 2 pin
footprint terminal-br762c
pins: 1, 2

## FUSE
designator F*
2 A 250 V AC 125 V DC Fuse Board Mount (Cartridge Style); Manufacturer: Littelfuse; Manufacturer Part Number: 0505025.MXP; RoHS: Yes; Category: Fuses; Stock 1: 3122; Pricing 1: 1=5.43, 5=5.244, 10=5.057, 50=3.9336, 100=3.278, 250=3.18436, 500=2.71606, 1000=2.57558 (USD); ComponentLink1URL: https://datasheet.ciiva.com/26890/getdatasheetpartid-706019-26890404.pdf?src-supplier=Verical; ComponentLink1Description: https://datasheet.ciiva.com/26890/getdatasheetpartid-706019-26890404.pdf?src-supplier=Verical; ComponentLink2URL: https://datasheet.ciiva.com/29618/littelfuse-fuse-505-datasheet-pdf-29618152.pdf?src-supplier=Digi-Key; ComponentLink2Description: https://datasheet.ciiva.com/29618/littelfuse-fuse-505-datasheet-pdf-29618152.pdf?src-supplier=Digi-Key; ComponentLink3URL: https://datasheet.ciiva.com/300/littelfuse-fuse-505-300507.pdf?src-supplier=Digi-Key; ComponentLink3Description: https://datasheet.ciiva.com/300/littelfuse-fuse-505-300507.pdf?src-supplier=Digi-Key; ComponentLink4URL: https://datasheet.ciiva.com/7314/697468-7314411.pdf?src-supplier=Newark; ComponentLink4Description: https://datasheet.ciiva.com/7314/697468-7314411.pdf?src-supplier=Newark
footprint FUSE (De Fuse)
pins: 1, 2

## GMOV-14D321K
designator MOV?  (value not drawn)
6 kA Varistor 1 Circuit Through Hole Disc 14mm; Manufacturer 1: Bourns; MP: B72214S2271K101; MF: EPCOS; Description 1: GDT-MOV Hybrid Protection Component 6kA 415VDC/320VAC 2-Pin Radial Bulk; Category 1: Varistors; Digi-Key_Part_Number: 495-1441-ND; Check_prices: https://www.snapeda.com/parts/B72214S2271K101/EPCOS/view-part/?ref=eda; Package: None; Value: *; SnapEDA_Link: https://www.snapeda.com/parts/B72214S2271K101/EPCOS/view-part/?ref=snap; Purchase-URL: https://pricing.snapeda.com/search/part/B72214S2271K101/?ref=eda; Supplier 1: Digi-Key; Manufacturer Part Number 1: GMOV-14D321K; RoHS 1: No; Stock 1: 2400; Pricing 1: 1=1,85, 5=1,764, 10=1,675, 50=1,352, 100=1,1462, 250=1,11684, 500=0,94052, 1000=0,83764, 5000=0,73478 (USD); ComponentLink1URL: https://media.digikey.com/pdf/Data%20Sheets/Bourns%20PDFs/GMOV_Series_DS.pdf?src-supplier=Digi-Key; ComponentLink1Description: https://media.digikey.com/pdf/Data%20Sheets/Bourns%20PDFs/GMOV_Series_DS.pdf?src-supplier=Digi-Key; Supplier Part Number 1: GMOV-14D321K-ND
footprint B72214S2271K101 (430 V 6 kA Varistor 1 Circuit Through Hole Disc 14mm)
pins: 1, 2

## KF301_2P
designator U?
Header Power 2 pins Type: KF301, 2 pins, 200mil (5.08mm) pitch
footprint KF301_2P (Header Power 2 pins Type: KF301, 2 pins, 200mil (5.08mm) pitch)
pins: 1, 2

## MOV-14D751K
designator MOV?  (value not drawn)
750 V 4.5 kA Varistor 1 Circuit Through Hole Disc 14mm; Manufacturer 1: Bourns; Description 1: Var MOV 460VAC/615VDC 4500A 750V Radial Bulk; Category 1: Varistors; Capacitance: 270pF; Voltage Rating (DC): 750V; Max Surge Current: 4.5kA; Current Rating: 50A; Tolerance: 10%; Max Voltage Rating (AC): 460V; Max Voltage Rating (DC): 615V; Clamping Voltage: 1.24kV; Number of Circuits: 1; Energy: 143J; Min Varistor Voltage: 675V; Max Varistor Voltage: 825V; ComponentLink1URL: https://media.digikey.com/pdf/Data%20Sheets/Bourns%20PDFs/GMOV_Series_DS.pdf?src-supplier=Digi-Key; ComponentLink1Description: https://media.digikey.com/pdf/Data%20Sheets/Bourns%20PDFs/GMOV_Series_DS.pdf?src-supplier=Digi-Key; Supplier 1: Digikey; Manufacturer Part Number 1: MOV-14D751K; RoHS 1: Yes; Stock 1: 4415; Pricing 1: 1=0,53, 10=0,458, 400=0,31723, 1200=0,20742, 5200=0,17691, 10000=0,16471 (USD); Mount: Radial,Through Hole; Case/Package: Radial; Weight: 0.105822oz; Min Operating Temperature: -40°C; Max Operating Temperature: 85°C; Packaging: Bulk; Package Quantity: 500; Clamping Current: 50A; Varistor Voltage: 750V; Series: -; Diameter: 14mm; Lead Pitch: 7.5mm; Radiation Hardening: No; RoHS Compliant: Yes; ComponentLink2URL: https://datasheet.ciiva.com/3026/mov14d-3026373.pdf?src-supplier=Avnet; ComponentLink2Description: https://datasheet.ciiva.com/3026/mov14d-3026373.pdf?src-supplier=Avnet; ComponentLink3URL: https://datasheet.ciiva.com/369/mov14d-369435.pdf?src-supplier=Digikey; ComponentLink3Description: https://datasheet.ciiva.com/369/mov14d-369435.pdf?src-supplier=Digikey; Supplier Part Number 1: 118-MOV-14D751K-ND
footprint B72214S2271K101 (430 V 6 kA Varistor 1 Circuit Through Hole Disc 14mm)
pins: 1, 2

## NTC20D-9
designator RV?
NTC Thermistor 20Ohms DIP 1A 25DegC  20R 9MM; MP: B72214S2271K101; MF: EPCOS; Digi-Key_Part_Number: 495-1441-ND; Check_prices: https://www.snapeda.com/parts/B72214S2271K101/EPCOS/view-part/?ref=eda; Package: None; Value: *; SnapEDA_Link: https://www.snapeda.com/parts/B72214S2271K101/EPCOS/view-part/?ref=snap; Purchase-URL: https://pricing.snapeda.com/search/part/B72214S2271K101/?ref=eda
footprint NTC20D9
pins: 1, 2
text: -t

## PQ 32/20
designator T?
footprint Core PQ32/20
pins: 1, 3, 4, 6, 7, 9, 10, 12

## PQ 35/35
designator T?
footprint Core PQ35
pins: 1, 3, 4, 6, 7, 9, 10, 12

## R413N3100DQM1K
designator C?  Parameter 1: 0.1uF 300Vac  (hidden comment: R413N3100DQM1K)
0.1 µF Film Capacitor 300V 1000V (1kV) Polypropylene (PP), Metallized Radial; Supplier 1: Mouser; Supplier Part Number 1: 80-R413N3100DQM1K
footprint R413N3100DQM1K (0.1 µF Film Capacitor 300V 1000V (1kV) Polypropylene (PP), Metallized Radial)
pins: 1, 2

## R474I2470CKA2M
designator C?  Parameter 1: 0.047uF 440Vac  (hidden comment: R474I2470CKA2M)
0.047 µF Film Capacitor 440V 1000V (1kV) Polypropylene (PP), Metallized Radial; Manufacturer 1: KEMET; Description 1: Cap Film 0.047UF 20% 1KVDC Rad; Category 1: Film Capacitors; Capacitance: 47nF; Tolerance: 20%; Ratings: AEC-Q200,X1; ComponentLink1URL: https://datasheet.ciiva.com/46436/1848873-46436253.pdf?src-supplier=Element14; ComponentLink1Description: https://datasheet.ciiva.com/46436/1848873-46436253.pdf?src-supplier=Element14; Supplier 1: Digikey; Manufacturer Part Number 1: R474I2470CKA2M; RoHS 1: Yes; Stock 1: 4929; Pricing 1: 1=0,69, 10=0,482, 50=0,4056, 100=0,3302, 500=0,27518 (USD); Mount: Through Hole; Case/Package: Radial; Dielectric Material: PP; Min Operating Temperature: -40°C; Max Operating Temperature: 110°C; Series: R47; Packaging: Cut Tape; Voltage Rating (AC): 440V; Voltage Rating (DC): 1kV; Termination: PC Pins; RoHS Compliant: Yes; Supplier Part Number 1: 399-17231-1-ND
footprint R474I2470CKA2M
pins: 1, 2

## R474N322050A1K
designator C?  Parameter 1: 0.22uF 440Vac  (hidden comment: R474N322050A1K)
0.22 µF Film Capacitor 440V 1000V (1kV) Polypropylene (PP), Metallized Radial; Manufacturer 1: KEMET; Description 1: Film Capacitor, Polypropylene, 1000V, 10% +Tol, 10% -Tol, 0.22uF, Through Hole Mount; Category 1: Film Capacitors; Supplier 1: Digikey; Manufacturer Part Number 1: R474N322050A1K; RoHS 1: Yes; Stock 1: 234; Pricing 1: 1=1,6, 10=1,202, 250=0,84336, 1000=0,63251, 5000=0,56926, 10000=0,54818 (USD); ComponentLink1URL: https://datasheet.ciiva.com/46436/1848873-46436253.pdf?src-supplier=Element14; ComponentLink1Description: https://datasheet.ciiva.com/46436/1848873-46436253.pdf?src-supplier=Element14; Supplier Part Number 1: 399-12725-ND
footprint R474N322050A1K
pins: 1, 2

## RECTIFIER 1kV
designator BR?, comment GBU4M-BP
Bridge Rectifier Single Phase Standard 1 kV Through Hole GBU; Manufacturer_Name: Comchip Technology; Manufacturer_Part_Number: RS507-G; Datasheet Link: https://media.digikey.com/pdf/Data%20Sheets/Comchip%20PDFs/RS501-G_RS507-G.pdf; Height: 22mm; Mouser Part Number: 750-RS507-G; Mouser Price/Stock: https://www.mouser.co.uk/ProductDetail/Comchip-Technology/RS507-G?qs=tw%252BuQ%2FB6PO3EMnoaGOPQWA%3D%3D; Supplier 1: Digikey; Supplier Part Number 1: GBU4M-BPMS-ND
footprint RS507G
pins: 1 K, 2 A, 3 C, 4 C

## RECTIFIER 1kV_1
designator BR?, comment GBU4M-BP
Bridge Rectifier Single Phase Standard 1 kV Through Hole GBU; Manufacturer_Name: Comchip Technology; Manufacturer_Part_Number: RS507-G; Datasheet Link: https://media.digikey.com/pdf/Data%20Sheets/Comchip%20PDFs/RS501-G_RS507-G.pdf; Height: 22mm; Mouser Part Number: 750-RS507-G; Mouser Price/Stock: https://www.mouser.co.uk/ProductDetail/Comchip-Technology/RS507-G?qs=tw%252BuQ%2FB6PO3EMnoaGOPQWA%3D%3D; Supplier 1: Digikey; Supplier Part Number 1: GBU4M-BPMS-ND
footprint RS507G
pins: 1 K, 2 A, 3 C, 4 C

## RES_0805_1k
designator R?, comment value 0805 1k  Supplier Part Number 1: A129749CT-ND  (hidden comment: CRGCQ0805F1K0)
1 kOhms ±1% 0.125W, 1/8W Chip Resistor 0805 (2012 Metric) Moisture Resistant Thick Film; Supplier 1: Digikey
footprint Res 0805 (Resistor 2.0 x 1.2 mm (LxW typ))
pins: 1, 2

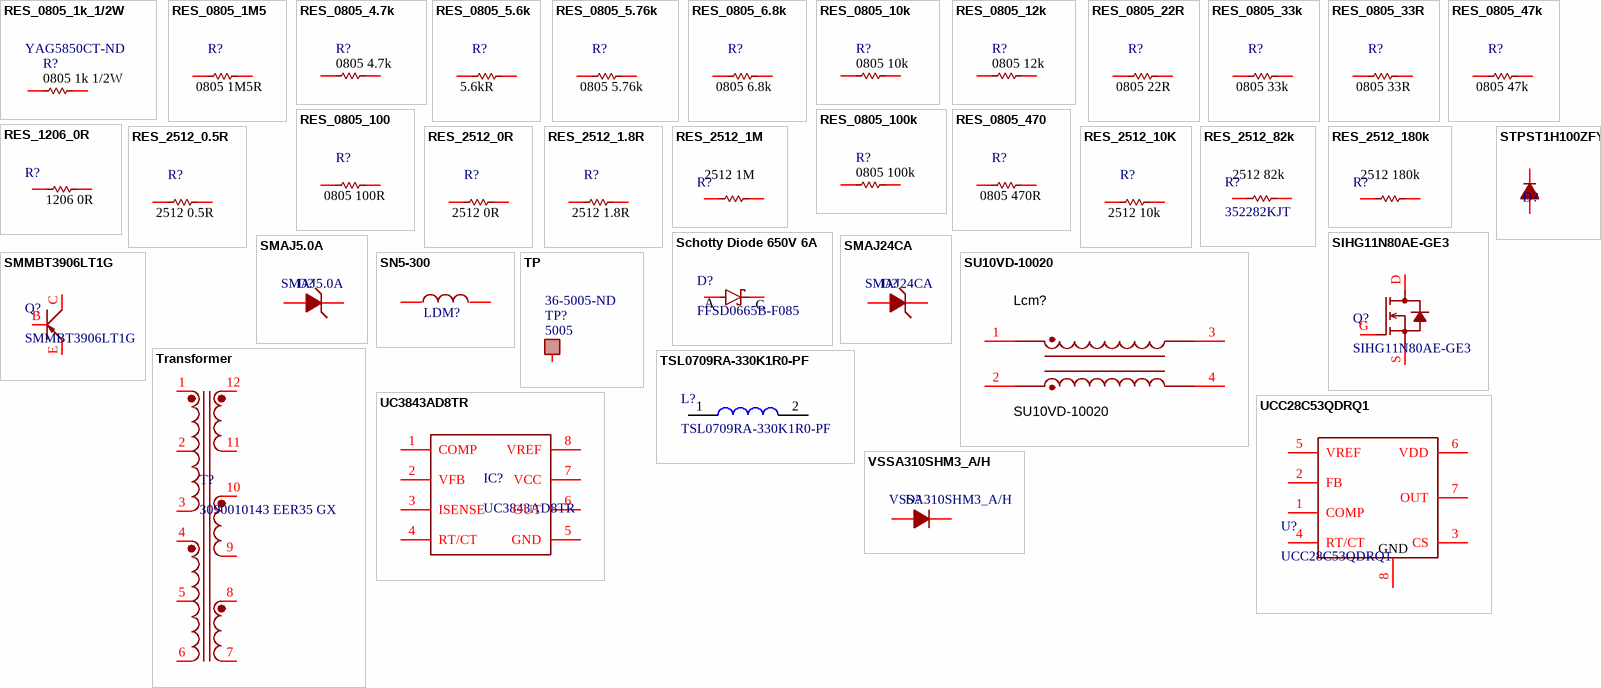
[diagram p1: symbols RES_0805_1k_1/2W to VSSA310SHM3_A/H]

## RES_0805_1k_1/2W
designator R?, comment value 0805 1k 1/2W  Supplier Part Number 1: YAG5850CT-ND  (hidden comment: SR0805FR-471KL)
1 kOhms ±1% 0.5W, 1/2W Chip Resistor 0805 (2012 Metric) Moisture Resistant Thick Film; Supplier 1: Digikey
footprint Res 0805 (Resistor 2.0 x 1.2 mm (LxW typ))
pins: 1, 2

## RES_0805_1M5
designator R?, comment value 0805 1M5R  (hidden comment: RC0805FR-131M5L)
1.5 MOhms ±1% 0.125W, 1/8W Chip Resistor 0805 (2012 Metric) Moisture Resistant Thick Film; Manufacturer 1: Yageo; Manufacturer Part Number 1: AC0805FR-0733RL; Description 1: SMD Chip Resistor, 33 Ohm, ± 1%, 125 mW, 0805 [2012 Metric], Thick Film, General Purpose; Category 1: Chip SMD Resistors; RoHS 1: Yes; Stock 1: 24620; Pricing 1: 1=0,1, 10=0,029, 50=0,0188, 100=0,0158, 500=0,01096, 1000=0,00948 (USD); ComponentLink1URL: http://www.mouser.com/ds/2/447/yageodocoutput-1111992.pdf?src-supplier=Mouser; ComponentLink1Description: http://www.mouser.com/ds/2/447/yageodocoutput-1111992.pdf?src-supplier=Mouser; ComponentLink2URL: http://www.yageo.com/NewPortal/yageodocoutput?fileName=/pdf/R-Chip/PYu-AC_51_RoHS_L_6.pdf&src-supplier=Digi-Key; ComponentLink2Description: http://www.yageo.com/NewPortal/yageodocoutput?fileName=/pdf/R-Chip/PYu-AC_51_RoHS_L_6.pdf&src-supplier=Digi-Key; ComponentLink3URL: https://www.yageo.com/upload/media/product/productsearch/datasheet/rchip/PYu-AC_51_RoHS_L_7.pdf?src-supplier=Digi-Key; ComponentLink3Description: https://www.yageo.com/upload/media/product/productsearch/datasheet/rchip/PYu-AC_51_RoHS_L_7.pdf?src-supplier=Digi-Key; ComponentLink4URL: http://www.yageo.com/NewPortal/yageodocoutput?fileName=/pdf/R-Chip/PYu-AC_51_RoHS_L_5.pdf&src-supplier=Digi-Key; ComponentLink4Description: http://www.yageo.com/NewPortal/yageodocoutput?fileName=/pdf/R-Chip/PYu-AC_51_RoHS_L_5.pdf&src-supplier=Digi-Key; ComponentLink5URL: https://datasheet.octopart.com/AC0805FR-0733RL-Yageo-datasheet-151884373.pdf?src-supplier=Future+Electronics; ComponentLink5Description: https://datasheet.octopart.com/AC0805FR-0733RL-Yageo-datasheet-151884373.pdf?src-supplier=Future+Electronics; Supplier 1: Digikey; Supplier Part Number 1: 13-RC0805FR-131M5LCT-ND
footprint RES 0805 (Resistor 2.0 x 1.2 mm (LxW typ))
pins: 1, 2

## RES_0805_4.7k
designator R?, comment value 0805 4.7k  (hidden comment: RC0805FR-104K7L)
4.7 kOhms ±1% 0.125W, 1/8W Chip Resistor 0805 (2012 Metric) Moisture Resistant Thick Film; Supplier 1: Digi-Key; Supplier Part Number 1: 13-RC0805FR-104K7LDKR-ND
footprint Res 0805 (Resistor 2.0 x 1.2 mm (LxW typ))
pins: 1, 2

## RES_0805_5.6k
designator R?, comment value 5.6kR  (hidden comment: RC0805FR-075K6L)
5.6 kOhms ±1% 0.125W, 1/8W Chip Resistor 0805 (2012 Metric) Moisture Resistant Thick Film; Supplier 1: Digi-Key; Supplier Part Number 1: 311-5.60KCRCT-ND
footprint RES 0805 (Resistor 2.0 x 1.2 mm (LxW typ))
pins: 1, 2

## RES_0805_5.76k
designator R?, comment value 0805 5.76k  (hidden comment: KTR10EZPF5761)
5.76 kOhms ±1% 0.125W, 1/8W Chip Resistor 0805 (2012 Metric) Moisture Resistant Thick Film; Supplier 1: Digikey; Supplier Part Number 1: RHM5.76KAHCT-ND
footprint RES 0805 (Resistor 2.0 x 1.2 mm (LxW typ))
pins: 1, 2

## RES_0805_6.8k
designator R?, comment value 0805 6.8k  (hidden comment: RC0805FR-076K8L)
6.8 kOhms ±1% 0.125W, 1/8W Chip Resistor 0805 (2012 Metric) Moisture Resistant Thick Film; Supplier 1: Digi-Key; Supplier Part Number 1: 311-6.80KCRCT-ND
footprint RES 0805 (Resistor 2.0 x 1.2 mm (LxW typ))
pins: 1, 2

## RES_0805_10k
designator R?, comment value 0805 10k  (hidden comment: RC0805FR-1310KL)
10 kOhms ±1% 0.125W, 1/8W Chip Resistor 0805 (2012 Metric) Moisture Resistant Thick Film; Supplier 1: Digi-Key; Supplier Part Number 1: 13-RC0805FR-1310KLDKR-ND
footprint RES 0805 (Resistor 2.0 x 1.2 mm (LxW typ))
pins: 1, 2

## RES_0805_12k
designator R?, comment value 0805 12k  (hidden comment: RC0805FR-1312KL)
12 kOhms ±1% 0.125W, 1/8W Chip Resistor 0805 (2012 Metric) Moisture Resistant Thick Film; Supplier 1: Digikey; Supplier Part Number 1: 13-RC0805FR-1312KLCT-ND
footprint Res 0805 (Resistor 2.0 x 1.2 mm (LxW typ))
pins: 1, 2

## RES_0805_22R
designator R?, comment value 0805 22R  (hidden comment: RC0805FR-0722RP)
22 Ohms ±1% 0.125W, 1/8W Chip Resistor 0805 (2012 Metric) Automotive AEC-Q200, Moisture Resistant Thick Film; Manufacturer 1: Yageo; Manufacturer Part Number 1: AC0805FR-0733RL; Description 1: SMD Chip Resistor, 33 Ohm, ± 1%, 125 mW, 0805 [2012 Metric], Thick Film, General Purpose; Category 1: Chip SMD Resistors; RoHS 1: Yes; Stock 1: 24620; Pricing 1: 1=0,1, 10=0,029, 50=0,0188, 100=0,0158, 500=0,01096, 1000=0,00948 (USD); ComponentLink1URL: http://www.mouser.com/ds/2/447/yageodocoutput-1111992.pdf?src-supplier=Mouser; ComponentLink1Description: http://www.mouser.com/ds/2/447/yageodocoutput-1111992.pdf?src-supplier=Mouser; ComponentLink2URL: http://www.yageo.com/NewPortal/yageodocoutput?fileName=/pdf/R-Chip/PYu-AC_51_RoHS_L_6.pdf&src-supplier=Digi-Key; ComponentLink2Description: http://www.yageo.com/NewPortal/yageodocoutput?fileName=/pdf/R-Chip/PYu-AC_51_RoHS_L_6.pdf&src-supplier=Digi-Key; ComponentLink3URL: https://www.yageo.com/upload/media/product/productsearch/datasheet/rchip/PYu-AC_51_RoHS_L_7.pdf?src-supplier=Digi-Key; ComponentLink3Description: https://www.yageo.com/upload/media/product/productsearch/datasheet/rchip/PYu-AC_51_RoHS_L_7.pdf?src-supplier=Digi-Key; ComponentLink4URL: http://www.yageo.com/NewPortal/yageodocoutput?fileName=/pdf/R-Chip/PYu-AC_51_RoHS_L_5.pdf&src-supplier=Digi-Key; ComponentLink4Description: http://www.yageo.com/NewPortal/yageodocoutput?fileName=/pdf/R-Chip/PYu-AC_51_RoHS_L_5.pdf&src-supplier=Digi-Key; ComponentLink5URL: https://datasheet.octopart.com/AC0805FR-0733RL-Yageo-datasheet-151884373.pdf?src-supplier=Future+Electronics; ComponentLink5Description: https://datasheet.octopart.com/AC0805FR-0733RL-Yageo-datasheet-151884373.pdf?src-supplier=Future+Electronics; Supplier 1: Digikey; Supplier Part Number 1: 13-RC0805FR-0722RPCT-ND
footprint RES 0805 (Resistor 2.0 x 1.2 mm (LxW typ))
pins: 1, 2

## RES_0805_33k
designator R?, comment value 0805 33k  (hidden comment: RC0805FR-0733KL)
33 kOhms ±1% 0.125W, 1/8W Chip Resistor 0805 (2012 Metric) Moisture Resistant Thick Film; Manufacturer 1: Yageo; Manufacturer Part Number 1: AC0805FR-0733RL; Description 1: SMD Chip Resistor, 33 Ohm, ± 1%, 125 mW, 0805 [2012 Metric], Thick Film, General Purpose; Category 1: Chip SMD Resistors; RoHS 1: Yes; Stock 1: 24620; Pricing 1: 1=0,1, 10=0,029, 50=0,0188, 100=0,0158, 500=0,01096, 1000=0,00948 (USD); ComponentLink1URL: http://www.mouser.com/ds/2/447/yageodocoutput-1111992.pdf?src-supplier=Mouser; ComponentLink1Description: http://www.mouser.com/ds/2/447/yageodocoutput-1111992.pdf?src-supplier=Mouser; ComponentLink2URL: http://www.yageo.com/NewPortal/yageodocoutput?fileName=/pdf/R-Chip/PYu-AC_51_RoHS_L_6.pdf&src-supplier=Digi-Key; ComponentLink2Description: http://www.yageo.com/NewPortal/yageodocoutput?fileName=/pdf/R-Chip/PYu-AC_51_RoHS_L_6.pdf&src-supplier=Digi-Key; ComponentLink3URL: https://www.yageo.com/upload/media/product/productsearch/datasheet/rchip/PYu-AC_51_RoHS_L_7.pdf?src-supplier=Digi-Key; ComponentLink3Description: https://www.yageo.com/upload/media/product/productsearch/datasheet/rchip/PYu-AC_51_RoHS_L_7.pdf?src-supplier=Digi-Key; ComponentLink4URL: http://www.yageo.com/NewPortal/yageodocoutput?fileName=/pdf/R-Chip/PYu-AC_51_RoHS_L_5.pdf&src-supplier=Digi-Key; ComponentLink4Description: http://www.yageo.com/NewPortal/yageodocoutput?fileName=/pdf/R-Chip/PYu-AC_51_RoHS_L_5.pdf&src-supplier=Digi-Key; ComponentLink5URL: https://datasheet.octopart.com/AC0805FR-0733RL-Yageo-datasheet-151884373.pdf?src-supplier=Future+Electronics; ComponentLink5Description: https://datasheet.octopart.com/AC0805FR-0733RL-Yageo-datasheet-151884373.pdf?src-supplier=Future+Electronics; Supplier 1: Future Electronics; Supplier Part Number 1: 1593995
footprint RES 0805 (Resistor 2.0 x 1.2 mm (LxW typ))
pins: 1, 2

## RES_0805_33R
designator R?, comment value 0805 33R  (hidden comment: AC0805FR-0733RL)
33 Ohms ±1% 0.125W, 1/8W Chip Resistor 0805 (2012 Metric) Automotive AEC-Q200, Moisture Resistant Thick Film; Manufacturer 1: Yageo; Description 1: SMD Chip Resistor, 33 Ohm, ± 1%, 125 mW, 0805 [2012 Metric], Thick Film, General Purpose; Category 1: Chip SMD Resistors; Supplier 1: Digi-Key; Manufacturer Part Number 1: AC0805FR-0733RL; RoHS 1: Yes; Stock 1: 24620; Pricing 1: 1=0,1, 10=0,029, 50=0,0188, 100=0,0158, 500=0,01096, 1000=0,00948 (USD); ComponentLink1URL: http://www.mouser.com/ds/2/447/yageodocoutput-1111992.pdf?src-supplier=Mouser; ComponentLink1Description: http://www.mouser.com/ds/2/447/yageodocoutput-1111992.pdf?src-supplier=Mouser; ComponentLink2URL: http://www.yageo.com/NewPortal/yageodocoutput?fileName=/pdf/R-Chip/PYu-AC_51_RoHS_L_6.pdf&src-supplier=Digi-Key; ComponentLink2Description: http://www.yageo.com/NewPortal/yageodocoutput?fileName=/pdf/R-Chip/PYu-AC_51_RoHS_L_6.pdf&src-supplier=Digi-Key; ComponentLink3URL: https://www.yageo.com/upload/media/product/productsearch/datasheet/rchip/PYu-AC_51_RoHS_L_7.pdf?src-supplier=Digi-Key; ComponentLink3Description: https://www.yageo.com/upload/media/product/productsearch/datasheet/rchip/PYu-AC_51_RoHS_L_7.pdf?src-supplier=Digi-Key; ComponentLink4URL: http://www.yageo.com/NewPortal/yageodocoutput?fileName=/pdf/R-Chip/PYu-AC_51_RoHS_L_5.pdf&src-supplier=Digi-Key; ComponentLink4Description: http://www.yageo.com/NewPortal/yageodocoutput?fileName=/pdf/R-Chip/PYu-AC_51_RoHS_L_5.pdf&src-supplier=Digi-Key; ComponentLink5URL: https://datasheet.octopart.com/AC0805FR-0733RL-Yageo-datasheet-151884373.pdf?src-supplier=Future+Electronics; ComponentLink5Description: https://datasheet.octopart.com/AC0805FR-0733RL-Yageo-datasheet-151884373.pdf?src-supplier=Future+Electronics; Supplier Part Number 1: YAG5367CT-ND
footprint RES 0805 (Resistor 2.0 x 1.2 mm (LxW typ))
pins: 1, 2